# EAGLE library part WM8978 (library mastrogippo)
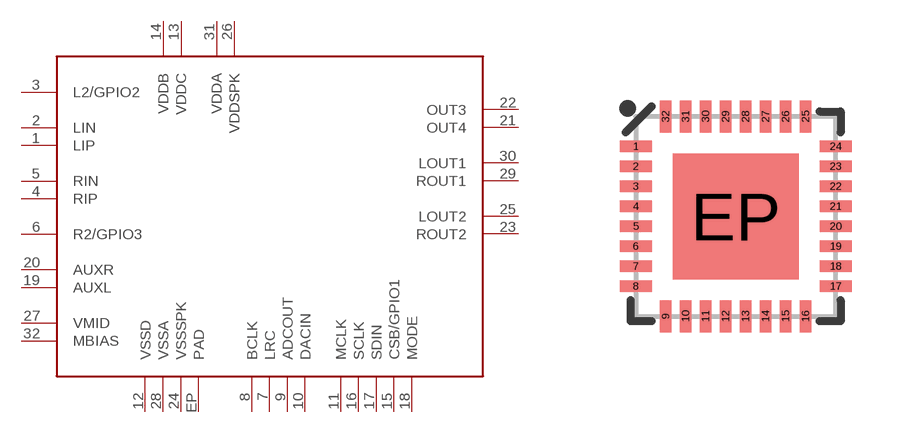
[diagram p45: symbol with the pads of QFN32-5X5MM; footprint QFN32-5X5MM]

Designator prefix -

## WM8978  [QFN32-5X5MM]
1  LIP
2  LIN
3  L2/GPIO2
4  RIP
5  RIN
6  R2/GPIO3
7  LRC
8  BCLK
9  ADCOUT
10  DACIN
11  MCLK
12  VSSD
13  VDDC
14  VDDB
15  CSB/GPIO1
16  SCLK
17  SDIN
18  MODE
19  AUXL
20  AUXR
21  OUT4
22  OUT3
23  ROUT2
24  VSSSPK
25  LOUT2
26  VDDSPK
27  VMID
28  VSSA
29  ROUT1
30  LOUT1
31  VDDA
32  MBIAS
EP  PAD

## Footprint QFN32-5X5MM (pad centres in mm)
32-pin QFN 5.0 x 5.0 mm, 0.5mm pitch Used by ESP8266 Datasheet <http://espressif.com/sites/default/files/documentation/0a-esp8266_datasheet_en_v4.4.pdf>
smd 0.8 x 0.285: 1 -2.5,1.75; 2 -2.5,1.25; 3 -2.5,0.75; 4 -2.5,0.25; 5 -2.5,-0.25; 6 -2.5,-0.75; 7 -2.5,-1.25; 8 -2.5,-1.75; 17 2.5,-1.75; 18 2.5,-1.25; 19 2.5,-0.75; 20 2.5,-0.25; 21 2.5,0.25; 22 2.5,0.75; 23 2.5,1.25; 24 2.5,1.75
smd 0.285 x 0.8: 9 -1.75,-2.5; 10 -1.25,-2.5; 11 -0.75,-2.5; 12 -0.25,-2.5; 13 0.25,-2.5; 14 0.75,-2.5; 15 1.25,-2.5; 16 1.75,-2.5; 25 1.75,2.5; 26 1.25,2.5; 27 0.75,2.5; 28 0.25,2.5; 29 -0.25,2.5; 30 -0.75,2.5; 31 -1.25,2.5; 32 -1.75,2.5
smd 3.15 x 3.15: EP 0,0